# Altium schematic symbol library theremin.SchLib: 5 symbols
Pins are listed as number, name and electrical type; pins without a type are passive.

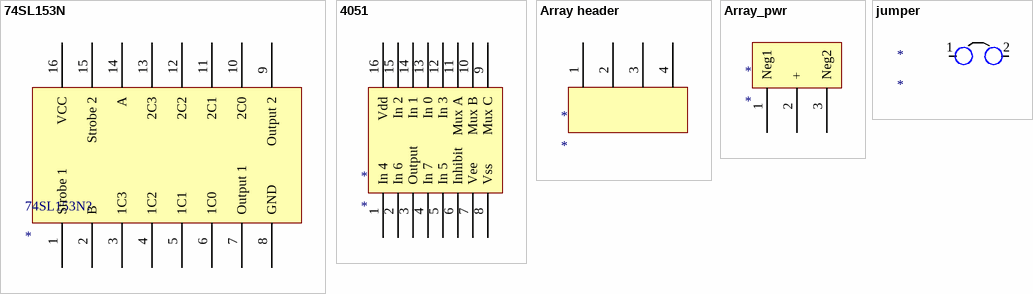
[diagram p0: symbols 74SL153N to jumper]

## 74SL153N
designator 74SL153N?
footprint SN74LS153N
pins: 1 Strobe 1, 2 B, 3 1C3, 4 1C2, 5 1C1, 6 1C0, 7 Output 1, 8 GND, 9 Output 2, 10 2C0, 11 2C1, 12 2C2, 13 2C3, 14 A, 15 Strobe 2, 16 VCC

## 4051
designator *
footprint 4051
pins: 1 In 4, 2 In 6, 3 Output, 4 In 7, 5 In 5, 6 Inhibit, 7 Vee, 8 Vss, 9 Mux C, 10 Mux B, 11 Mux A, 12 In 3, 13 In 0, 14 In 1, 15 In 2, 16 Vdd

## Array header
designator *
footprint array header
pins: 1, 2, 3, 4

## Array_pwr
designator *
footprint Array pwr
pins: 1 Neg1, 2 +, 3 Neg2

## jumper
designator *
footprint jumper
pins: 1, 2